# Altium schematic symbol library MP_PACKS.SchLib: 1 symbol
Pins are listed as number, name and electrical type; pins without a type are passive.

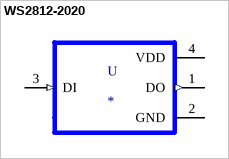
[diagram p0: symbol WS2812-2020]

## WS2812-2020
designator U
Intelligent control LED integrated light source; MP: WS2812-2020; MF: Worldsemi; SnapEDA_Link: https://www.snapeda.com/parts/WS2812-2020/Worldsemi/view-part/2873751/?ref=snap; Package: Package Analog Devices; Value: *; Availability: Unavailable; Price: None
footprint LED_WS2812-2020
pins: 1 DO (out), 2 GND (power), 3 DI (in), 4 VDD (power)